# Altium footprint library PcbLib1.PcbLib: 14 footprints
Each footprint in its own frame and in the unit in brackets; x right, y up, seen from the top. Pads: shape width x height; smd on the part's side, far side on the other; paste and mask are expansions set on the pad; w line width, h text height; cw(c..) or ccw(c..) is an arc to the next point about the centre after c.
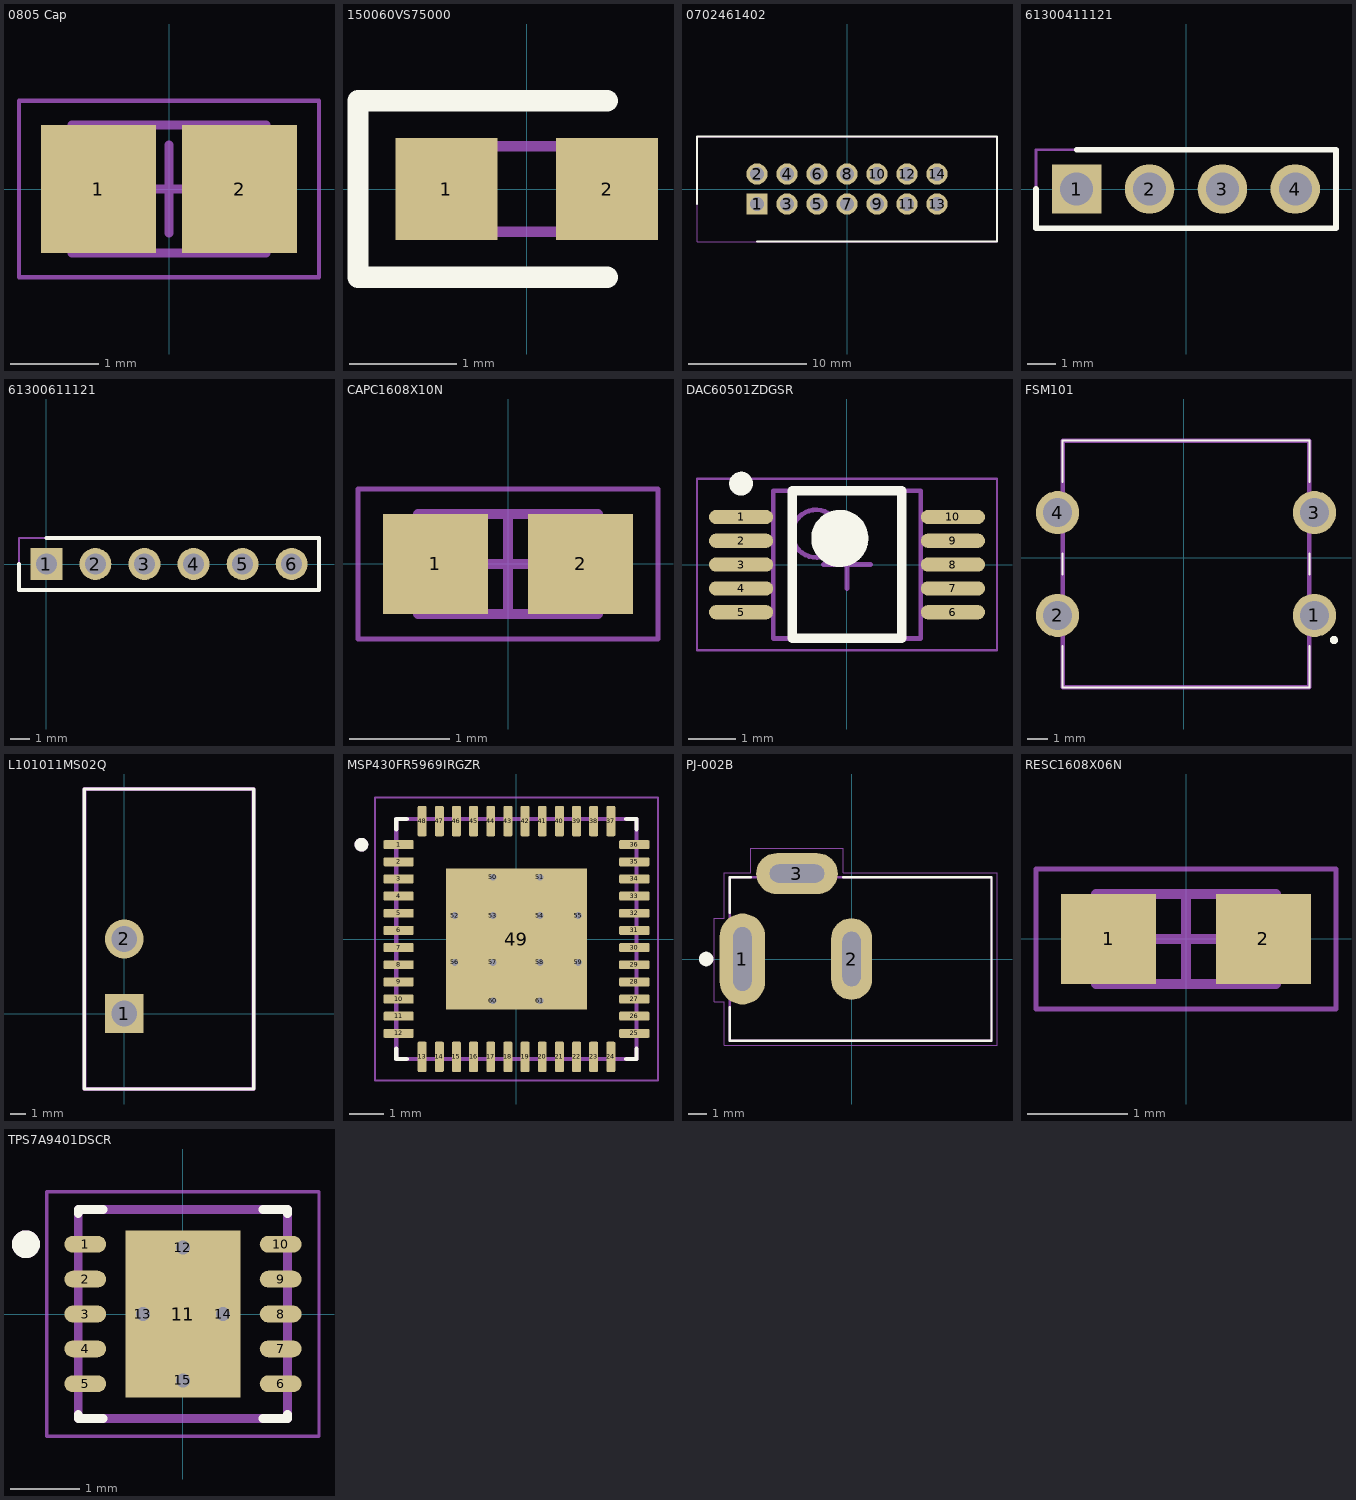
[diagram p0: the footprints below, top view; thin cyan lines are the x and y axes]

## 0805 Cap [mm] "Chip Capacitor, 2-Leads, Body 2.00x1.25mm, IPC Medium Density"
height 1.45
pads (2):
  rect 1.3x1.45 smd: 1(-0.8,0) 2(0.8,0)
Mechanical 13:
  lines w0.1: -1.1,-0.725 1.1,-0.725 1.1,0.725 -1.1,0.725 -1.1,-0.725
  text ".Designator" at -1.397,1.651 h1.52
Mechanical 15:
  lines w0.05: -1.7,-1 1.7,-1 1.7,1 -1.7,1 -1.7,-1
  lines w0.1: -0.5,0 0.5,0 ; 0,-0.5 0,0.5
3D body: height 1.45, standoff 0, extent 0.6,-0.725 1.1,0.725
3D body: height 1.45, standoff 0, extent -1.1,-0.725 -0.6,0.725
3D body: height 1.45, standoff 0, extent -0.6,-0.725 0.6,0.725

## 150060VS75000 [mm] "LED GREEN CLEAR 0603 SMD"
pads (2):
  rect 0.95x0.95 smd: 1(-0.75,0) 2(0.75,0)
Top Overlay:
  lines w0.2: 0.75,-0.825 -1.575,-0.825 -1.575,0.825 0.75,0.825
Mechanical 15:
  lines w0.1: -0.8,0.133 -0.533,0.4 ; -0.8,-0.4 -0.8,0.4 0.8,0.4 0.8,-0.4 -0.8,-0.4
3D body "150060VS75000.stp": height 0.7, standoff 0, extent -0.8,-0.4 0.8,0.4

## 0702461402 [mm] "Connector Header Through Hole 14 position 0.100\" (2.54mm)"
height 9.27
pads (14):
  rect 1.8x1.8 / inner round 1.8 / far side rect 1.8x1.8 hole 1.2: 1(-7.62,-1.27)
  round 1.8 hole 1.2: 2(-7.62,1.27) 3(-5.08,-1.27) 4(-5.08,1.27) 5(-2.54,-1.27) 6(-2.54,1.27) 7(0,-1.27) 8(0,1.27) 9(2.54,-1.27) 10(2.54,1.27) 11(5.08,-1.27) 12(5.08,1.27) 13(7.62,-1.27) 14(7.62,1.27)
Top Overlay:
  lines w0.2: -12.7,-1.27 -12.7,4.445 12.7,4.445 12.7,-4.445 -7.62,-4.445
Mechanical 13:
  text ".Designator" at -6.858,5.207 h1.52
Mechanical 15:
  lines w0.1: -12.7,-4.445 -12.7,4.445 12.7,4.445 12.7,-4.445 -12.7,-4.445
3D body "702461402.stp": height 9.3, standoff -3.4, extent -12.7,-4.445 12.7,4.445

## 971070321 [mm] "Hex Standoff Threaded M3x0.5 Steel 0.276\" (7.00mm)"

## 61300411121 [mm] "Connector Header Through Hole 4 position 0.100\" (2.54mm)"
pads (4):
  rect 1.725x1.725 / inner round 1.725 / far side rect 1.725x1.725 hole 1.15: 1(-3.81,0)
  round 1.725 hole 1.15: 2(-1.27,0) 3(1.27,0) 4(3.81,0)
Top Overlay:
  lines w0.2: -5.23,0 -5.23,-1.37 5.23,-1.37 5.23,1.37 -3.81,1.37
Mechanical 15:
  lines w0.1: -5.23,-1.37 -5.23,1.37 5.23,1.37 5.23,-1.37 -5.23,-1.37
3D body "61300411121_Download_STP_61300411121_rev1.stp": height 7.27, standoff -4.27, extent -5.08,-1.27 5.08,1.27

## 61300611121 [mm] "Connector Header Through Hole 6 position 0.100\" (2.54mm)"
pads (6):
  rect 1.65x1.65 / inner round 1.65 / far side rect 1.65x1.65 hole 1.1: 1(0,0)
  round 1.65 hole 1.1: 2(2.54,0) 3(5.08,0) 4(7.62,0) 5(10.16,0) 6(12.7,0)
Top Overlay:
  lines w0.2: -1.42,0 -1.42,-1.345 14.12,-1.345 14.12,1.345 0,1.345
Mechanical 13:
  text ".Designator" at 5.715,2.159 h1.52
Mechanical 15:
  lines w0.1: -1.42,-1.345 -1.42,1.345 14.12,1.345 14.12,-1.345 -1.42,-1.345
3D body "61300611121.stp": height 8.69, standoff -3.2, extent -1.27,-1.27 13.97,1.27

## CAPC1608X10N [mm] "Chip Capacitor, 2-Leads, Body 1.60x0.80mm, IPC Medium Density"
height 1
pads (2):
  rect 1.05x1 smd: 1(-0.725,0) 2(0.725,0)
Mechanical 13:
  lines w0.1: -0.9,-0.5 0.9,-0.5 0.9,0.5 -0.9,0.5 -0.9,-0.5
  text ".Designator" at -1.524,1.143 h1.52
Mechanical 15:
  lines w0.05: -1.5,-0.75 1.5,-0.75 1.5,0.75 -1.5,0.75 -1.5,-0.75
  lines w0.1: -0.5,0 0.5,0 ; 0,-0.5 0,0.5
3D body: height 1, standoff 0, extent 0.6,-0.5 0.9,0.5
3D body: height 1, standoff 0, extent -0.9,-0.5 -0.6,0.5
3D body: height 1, standoff 0, extent -0.6,-0.5 0.6,0.5

## DAC60501ZDGSR [mm] "12 Bit Digital to Analog Converter 1 10-VSSOP"
height 1.1
pads (10):
  oval 1.35x0.3 smd: 1(-2.225,1) 2(-2.225,0.5) 3(-2.225,0) 4(-2.225,-0.5) 5(-2.225,-1) 6(2.225,-1) 7(2.225,-0.5) 8(2.225,0) 9(2.225,0.5) 10(2.225,1)
Top Overlay:
  circle w0.25: c-2.225,1.7 r0.125
  circle w0.6: c-0.15,0.55 r0.3
  lines w0.2: -1.15,-1.55 -1.15,1.55 1.15,1.55 1.15,-1.55 -1.15,-1.55
Mechanical 13:
  circle w0.1: c-0.65,0.65 r0.5
  lines w0.1: -1.55,-1.55 -1.55,1.55 1.55,1.55 1.55,-1.55 -1.55,-1.55
Mechanical 15:
  lines w0.05: -3.15,-1.8 -3.15,1.8 3.15,1.8 3.15,-1.8 -3.15,-1.8
  lines w0.1: -0.5,0 0.5,0 ; 0,-0.5 0,0.5
3D body: height 1.1, standoff 0.05, extent -1.55,-1.55 1.55,1.55

## FSM101 [mm] "Tactile Switch SPST-NO Top Actuated Through Hole"
pads (4):
  round 2.1 hole 1.4: 1(6.35,-2.794) 2(-6.15,-2.794) 3(6.35,2.206) 4(-6.15,2.206)
Top Overlay:
  lines w0.1: -5.9,-4.294 -5.9,-6.294 6.1,-6.294 6.1,-4.294 ; -5.9,-0.794 -5.9,0.206 ; -5.9,3.706 -5.9,5.706 6.1,5.706 6.1,3.706 ; 6.1,-0.794 6.1,0.206
  lines w0.2: 7.3,-4.094 ccw(c7.3,-3.994) 7.3,-3.894 ccw(c7.3,-3.994) 7.3,-4.094
Mechanical 15:
  lines w0.2: -5.9,-6.294 -5.9,5.706 6.1,5.706 6.1,-6.294 -5.9,-6.294
3D body "FSM101.stp": height 7.6, standoff -5, extent -6.85,-6.285 6.85,5.715

## L101011MS02Q [mm] "SWITCH SLIDE SPST 4A 125V"
height 5.08
pads (2):
  rect 2.475x2.475 hole 1.65: 1(0,0)
  round 2.475 hole 1.65: 2(0,4.75)
Top Overlay:
  lines w0.2: -2.545,-4.8 8.245,-4.8 8.245,14.3 -2.545,14.3 -2.545,-4.8
Mechanical 13:
  text ".Designator" at -0.254,15.113 h1.52
Mechanical 15:
  lines w0.254: -2.545,-4.8 8.245,-4.8 8.245,14.3 -2.545,14.3 -2.545,-4.8
3D body "L101011MS02Q.stp": height 14.1, standoff -3.91, extent -2.603,-4.851 8.191,14.249

## MSP430FR5969IRGZR [mm] "MSP430 CPUXV2 MSP430™ FRAM Microcontroller IC 16-Bit 16MHz 64KB (64K x 8) FRAM 48-VQFN (7x7)"
height 1
pads (61):
  rrect25% 0.88x0.26 smd: 1(-3.435,2.75) 2(-3.435,2.25) 3(-3.435,1.75) 4(-3.435,1.25) 5(-3.435,0.75) 6(-3.435,0.25) 7(-3.435,-0.25) 8(-3.435,-0.75) 9(-3.435,-1.25) 10(-3.435,-1.75) 11(-3.435,-2.25) 12(-3.435,-2.75) 25(3.435,-2.75) 26(3.435,-2.25) 27(3.435,-1.75) 28(3.435,-1.25) 29(3.435,-0.75) 30(3.435,-0.25) 31(3.435,0.25) 32(3.435,0.75) 33(3.435,1.25) 34(3.435,1.75) 35(3.435,2.25) 36(3.435,2.75)
  rrect25% 0.26x0.88 smd: 13(-2.75,-3.435) 14(-2.25,-3.435) 15(-1.75,-3.435) 16(-1.25,-3.435) 17(-0.75,-3.435) 18(-0.25,-3.435) 19(0.25,-3.435) 20(0.75,-3.435) 21(1.25,-3.435) 22(1.75,-3.435) 23(2.25,-3.435) 24(2.75,-3.435) 37(2.75,3.435) 38(2.25,3.435) 39(1.75,3.435) 40(1.25,3.435) 41(0.75,3.435) 42(0.25,3.435) 43(-0.25,3.435) 44(-0.75,3.435) 45(-1.25,3.435) 46(-1.75,3.435) 47(-2.25,3.435) 48(-2.75,3.435)
  rect 4.1x4.1 smd paste-1.465: 49(0,0)
  round 0.3 hole 0.2: 50(-0.685,1.8) 51(0.685,1.8) 52(-1.8,0.685) 53(-0.685,0.685) 54(0.685,0.685) 55(1.8,0.685) 56(-1.8,-0.685) 57(-0.685,-0.685) 58(0.685,-0.685) 59(1.8,-0.685) 60(-0.685,-1.8) 61(0.685,-1.8)
Top Overlay:
  circle w0.2: c-4.52,2.75 r0.1
  lines w0.127: -3.5,-3.2 -3.5,-3.5 -3.2,-3.5 ; -3.5,3.2 -3.5,3.5 -3.2,3.5 ; 3.2,-3.5 3.5,-3.5 3.5,-3.2 ; 3.2,3.5 3.5,3.5 3.5,3.2
Top Paste:
  region: -0.785,-1.955 -1.955,-1.955 -1.955,-0.785 -0.785,-0.785
  region: 0.585,-1.955 -0.585,-1.955 -0.585,-0.785 0.585,-0.785
  region: 1.955,-1.955 0.785,-1.955 0.785,-0.785 1.955,-0.785
  region: 1.955,0.785 0.785,0.785 0.785,1.955 1.955,1.955
  region: 0.585,0.785 -0.585,0.785 -0.585,1.955 0.585,1.955
  region: -0.785,0.785 -1.955,0.785 -1.955,1.955 -0.785,1.955
  region: -0.785,-0.585 -1.955,-0.585 -1.955,0.585 -0.785,0.585
  region: 1.955,-0.585 0.785,-0.585 0.785,0.585 1.955,0.585
Mechanical 13:
  circle w0.2: c-4.52,2.75 r0.1
  lines w0.127: -3.5,-3.5 -3.5,3.5 3.5,3.5 3.5,-3.5 -3.5,-3.5
  text ".Designator" at -1.27,4.826 h1.52
Mechanical 15:
  lines w0.05: -4.125,-4.125 -4.125,4.125 4.125,4.125 4.125,-4.125 -4.125,-4.125
3D body "step_temp.STEP": height 1, standoff 0, extent -3.5,-3.5 3.5,3.5

## PJ-002B [mm] "Power Barrel Connector Jack 2.50mm ID (0.098\"), 5.50mm OD (0.217\") Through Hole, Right Angle"
pads (3):
  oval 2.5x5 hole 1 slot 3.5 at 90 deg: 1(-6,0)
  oval 2.25x4.5 hole 1 slot 3 at 90 deg: 2(0,0)
  oval 4.5x2.25 hole 1 slot 3 at 0 deg: 3(-3,4.7)
Top Overlay:
  circle w0.4: c-8,0 r0.2
  lines w0.127: -6.7,-2.65 -6.7,-4.5 7.7,-4.5 7.7,4.5 -0.45,4.5 ; -6.7,2.55 -6.7,4.5 -5.55,4.5
Mechanical 13:
  lines w0.127: -6.7,-4.5 7.7,-4.5 7.7,4.5 -6.7,4.5 -6.7,-4.5
  text ".Designator" at 0.508,4.953 h1.52
Mechanical 15:
  lines w0.05: -7.55,-2.35 -7.55,2.25 -7,2.25 -7,4.75 -5.55,4.75 -5.55,6.1 -0.45,6.1 -0.45,4.75 8,4.75 8,-4.75 -7,-4.75 -7,-2.35 -7.55,-2.35
3D body "step_temp.STEP": height 11, standoff -3.5, extent -6.7,-4.5 7.7,4.9

## RESC1608X06N [mm] "Chip Resistor, 2-Leads, Body 1.60x0.80mm, IPC Medium Density"
height 0.55
pads (2):
  rect 0.95x0.9 smd: 1(-0.775,0) 2(0.775,0)
Mechanical 13:
  lines w0.1: -0.9,-0.45 0.9,-0.45 0.9,0.45 -0.9,0.45 -0.9,-0.45
  text ".Designator" at -0.508,1.524 h1.52
Mechanical 15:
  lines w0.05: -1.5,-0.7 1.5,-0.7 1.5,0.7 -1.5,0.7 -1.5,-0.7
  lines w0.1: -0.45,0 0.45,0 ; 0,-0.45 0,0.45
3D body: height 0.55, standoff 0, extent 0.6,-0.45 0.9,0.45
3D body: height 0.55, standoff 0, extent -0.9,-0.45 -0.6,0.45
3D body: height 0.55, standoff 0, extent -0.6,-0.45 0.6,0.45

## TPS7A9401DSCR [mm] "Linear Voltage Regulator IC Positive Adjustable 1 Output 1A 10-WSON (3x3)"
height 0.8
pads (15):
  oval 0.6x0.24 smd paste-1 mask+0: 1(-1.4,1) 2(-1.4,0.5) 3(-1.4,0) 4(-1.4,-0.5) 5(-1.4,-1) 6(1.4,-1) 7(1.4,-0.5) 8(1.4,0) 9(1.4,0.5) 10(1.4,1)
  rect 1.65x2.4 smd paste-2 mask+0.07: 11(0,0)
  round 0.3 hole 0.2 mask+0: 12(0,0.95) 13(-0.575,0) 14(0.575,0) 15(0,-0.95)
Top Overlay:
  circle w0.2: c-2.25,1 r0.1
  lines w0.127: -1.5,-1.44 -1.5,-1.5 -1.145,-1.5 ; -1.5,1.44 -1.5,1.5 -1.145,1.5 ; 1.145,-1.5 1.5,-1.5 1.5,-1.44 ; 1.145,1.5 1.5,1.5 1.5,1.44
Top Paste:
  drawing of 12 lines, arcs and shapes, not listed
Top Solder:
  drawing of 10 lines, arcs and shapes, not listed
Mechanical 13:
  circle w0.2: c-2.25,1 r0.1
  lines w0.127: -1.5,-1.5 1.5,-1.5 1.5,1.5 -1.5,1.5 -1.5,-1.5
  text ".Designator" at -0.508,2.032 h1.52
Mechanical 15:
  lines w0.05: -1.95,-1.75 1.95,-1.75 1.95,1.75 -1.95,1.75 -1.95,-1.75
3D body "step_temp.STEP": height 0.8, standoff 0, extent -1.5,-1.5 1.5,1.5